# EAGLE library part NEO-6 (library Lysenko_Eagle_Lib)
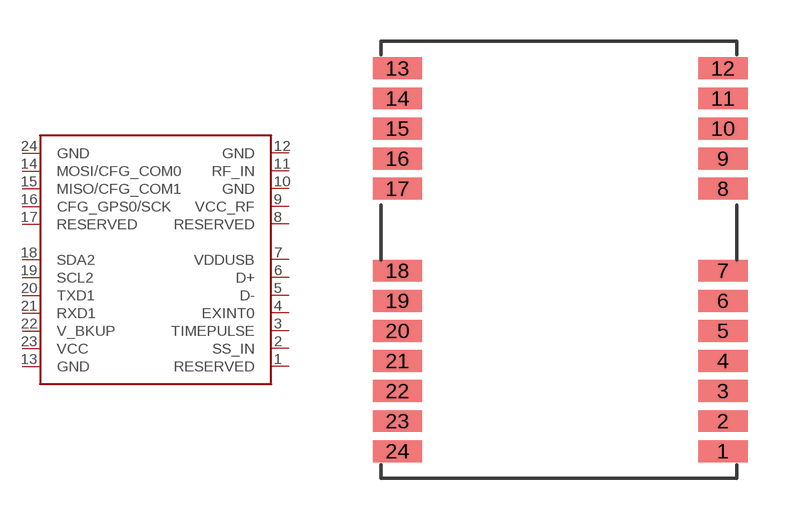
[diagram p34: symbol with the pads of NEO-6; footprint NEO-6]

Designator prefix -

## NEO-6  [NEO-6]
1  RESERVED
2  SS_IN
3  TIMEPULSE
4  EXINT0
5  D-
6  D+
7  VDDUSB
8  RESERVED
9  VCC_RF
10  GND
11  RF_IN
12  GND
13  GND
14  MOSI/CFG_COM0
15  MISO/CFG_COM1
16  CFG_GPS0/SCK
17  RESERVED
18  SDA2
19  SCL2
20  TXD1
21  RXD1
22  V_BKUP
23  VCC
24  GND

## Footprint NEO-6 (pad centres in mm)
smd 1.8 x 0.8: 1 12,1; 2 12,2.1; 3 12,3.2; 4 12,4.3; 5 12,5.4; 6 12,6.5; 7 12,7.6; 8 12,10.6; 9 12,11.7; 10 12,12.8; 11 12,13.9; 12 12,15; 13 0.1,15; 14 0.1,13.9; 15 0.1,12.8; 16 0.1,11.7; 17 0.1,10.6; 18 0.1,7.6; 19 0.1,6.5; 20 0.1,5.4; 21 0.1,4.3; 22 0.1,3.2; 23 0.1,2.1; 24 0.1,1